# Altium schematic symbol library S101031MS02Q.SchLib: 1 symbol
Pins are listed as number, name and electrical type; pins without a type are passive.

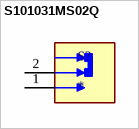
[diagram p0: symbol S101031MS02Q]

## S101031MS02Q
designator S?
Slide Switch SPST Through Hole; MF: C&K; MP: S101031MS02Q; SnapEDA_Link: https://www.snapeda.com/parts/S101031MS02Q/C%2526K/view-part/?ref=snap; Purchase-URL: https://pricing.snapeda.com/search/part/S101031MS02Q/?ref=eda; Package: None; Price: None; Availability: In Stock; Value: *; Check_prices: https://www.snapeda.com/parts/S101031MS02Q/C%2526K/view-part/?ref=eda
footprint SW_S101031MS02Q
pins: 1, 2